# Altium footprint library QSOP64P489X175-16.PcbLib: 1 footprints
Each footprint in its own frame and in the unit in brackets; x right, y up, seen from the top. Pads: shape width x height; smd on the part's side, far side on the other; paste and mask are expansions set on the pad; w line width, h text height; cw(c..) or ccw(c..) is an arc to the next point about the centre after c.
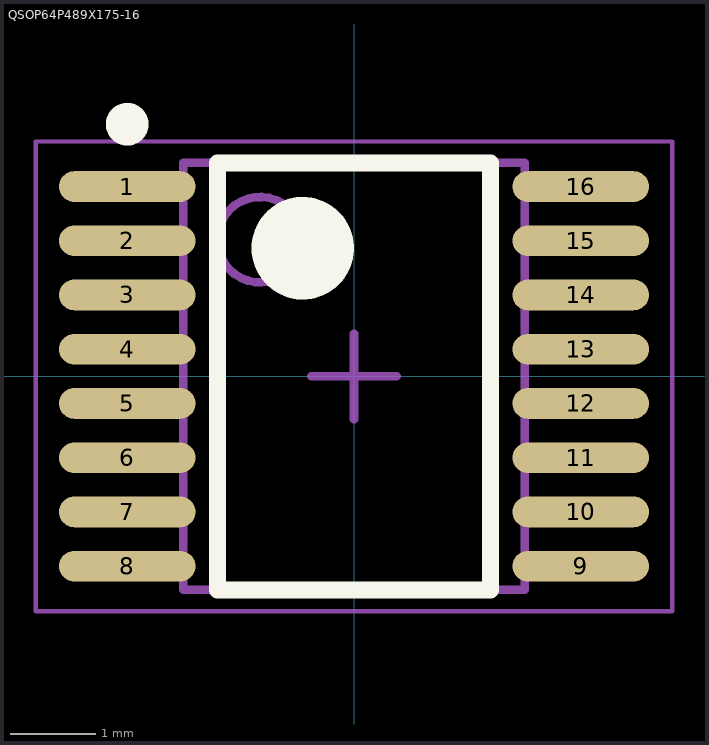
[diagram p0: the footprint, top view; thin cyan lines are the x and y axes]

## QSOP64P489X175-16 [mm] "SOP, 16-Leads, Body 4.89x3.90mm, Pitch 0.64mm, IPC Medium Density"
height 1.75
pads (16):
  oval 1.6x0.36 smd mask+0.05: 1(-2.655,2.222) 2(-2.655,1.587) 3(-2.655,0.953) 4(-2.655,0.318) 5(-2.655,-0.318) 6(-2.655,-0.953) 7(-2.655,-1.587) 8(-2.655,-2.222) 9(2.655,-2.222) 10(2.655,-1.587) 11(2.655,-0.953) 12(2.655,-0.318) 13(2.655,0.318) 14(2.655,0.953) 15(2.655,1.587) 16(2.655,2.222)
Top Overlay:
  circle w0.6: c-0.6,1.5 r0.3
  circle w0.25: c-2.655,2.953 r0.125
  lines w0.2: -1.6,-2.5 1.6,-2.5 1.6,2.5 -1.6,2.5 -1.6,-2.5
Mechanical 13:
  circle w0.1: c-1.1,1.6 r0.5
  lines w0.1: -2,-2.5 2,-2.5 2,2.5 -2,2.5 -2,-2.5
Mechanical 15:
  lines w0.05: -3.725,-2.75 3.725,-2.75 3.725,2.75 -3.725,2.75 -3.725,-2.75
  lines w0.1: -0.5,0 0.5,0 ; 0,-0.5 0,0.5
Mechanical 17:
  text "'.Designator'" at -0.127,2.032 h0.35
3D body "QSOP16.step": height 1.75, standoff 0, extent -3.01,-2.5 3.01,2.5